# Altium footprint library Tony_Stanks_Own.PcbLib: 12 footprints
Each footprint in its own frame and in the unit in brackets; x right, y up, seen from the top. Pads: shape width x height; smd on the part's side, far side on the other; paste and mask are expansions set on the pad; w line width, h text height; cw(c..) or ccw(c..) is an arc to the next point about the centre after c.
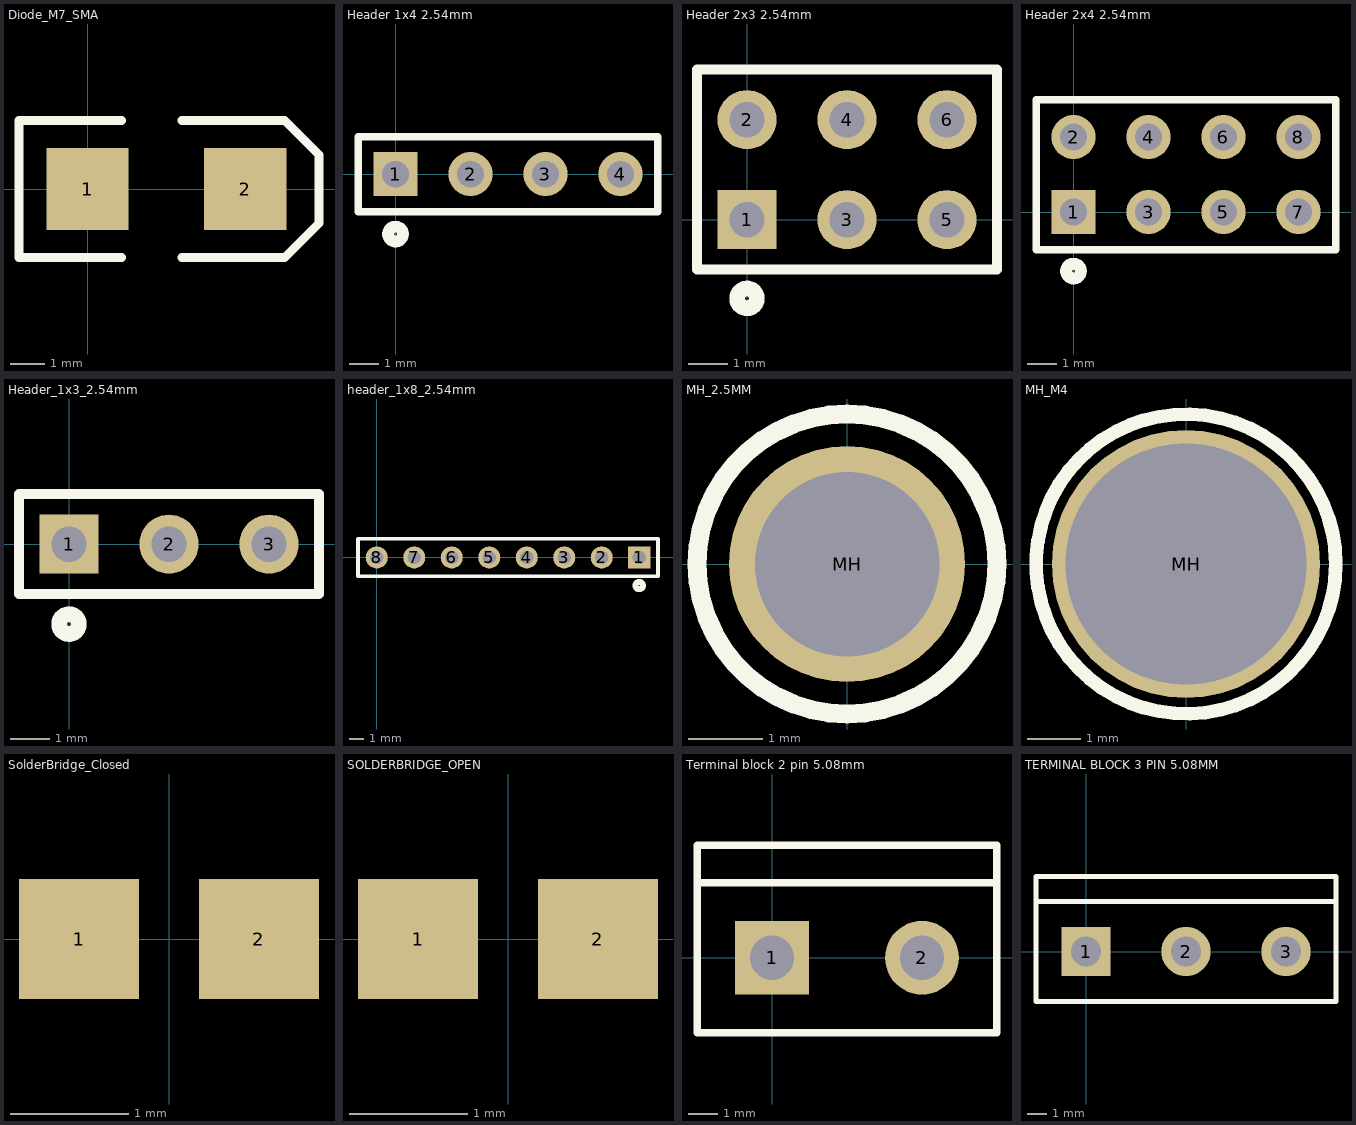
[diagram p0: the footprints below, top view; thin cyan lines are the x and y axes]

## Diode_M7_SMA [mm]
pads (2):
  rect 2.4x2.4 smd mask+0: 1(0,0) 2(4.6,0)
Top Overlay:
  lines w0.254: 1,-2 -2,-2 -2,2 1,2 ; 2.75,-2 5.75,-2 6.75,-1 6.75,1 5.75,2 5.25,2 2.75,2

## Header 1x4 2.54mm [mm]
pads (4):
  rect 1.5x1.5 hole 0.9: 1(0,0)
  round 1.5 hole 0.9: 2(2.54,0) 3(5.08,0) 4(7.62,0)
Top Overlay:
  circle w0.4: c0,-2.032 r0.25
  lines w0.254: -1.27,-1.27 8.89,-1.27 8.89,1.27 -1.27,1.27 -1.27,-1.27

## Header 2x3 2.54mm [mm]
pads (6):
  rect 1.5x1.5 hole 0.9: 1(0,0)
  round 1.5 hole 0.9: 2(0,2.54) 3(2.54,0) 4(2.54,2.54) 5(5.08,0) 6(5.08,2.54)
Top Overlay:
  circle w0.4: c0,-2 r0.25
  lines w0.254: -1.27,-1.27 6.35,-1.27 6.35,3.81 -1.27,3.81 -1.27,-1.27

## Header 2x4 2.54mm [mm]
pads (8):
  rect 1.5x1.5 hole 0.9: 1(0,0)
  round 1.5 hole 0.9: 2(0,2.54) 3(2.54,0) 4(2.54,2.54) 5(5.08,0) 6(5.08,2.54) 7(7.62,0) 8(7.62,2.54)
Top Overlay:
  circle w0.4: c0,-2 r0.25
  lines w0.254: -1.27,-1.27 8.89,-1.27 8.89,3.81 -1.27,3.81 -1.27,-1.27

## Header_1x3_2.54mm [mm]
pads (3):
  rect 1.5x1.5 hole 0.9: 1(0,0)
  round 1.5 hole 0.9: 2(2.54,0) 3(5.08,0)
Top Overlay:
  circle w0.4: c0,-2.032 r0.25
  lines w0.254: -1.27,-1.27 6.35,-1.27 6.35,1.27 -1.27,1.27 -1.27,-1.27

## header_1x8_2.54mm [mm] "header_1x8_2.54mm"
pads (8):
  rect 1.5x1.5 hole 0.9: 1(17.78,0)
  round 1.5 hole 0.9: 2(15.24,0) 3(12.7,0) 4(10.16,0) 5(7.62,0) 6(5.08,0) 7(2.54,0) 8(0,0)
Top Overlay:
  circle w0.4: c17.78,-1.905 r0.25
  lines w0.254: -1.27,-1.27 19.05,-1.27 19.05,1.27 -1.27,1.27 -1.27,0 -1.27,-1.27

## MH_2.5MM [mm] "Mounting_Hole_2.5MM"
pads (1):
  round 3.2 hole 2.499: MH(0,0)
Top Overlay:
  circle w0.254: c0,0 r2.032
Bottom Overlay:
  circle w0.254: c0,0 r2.032

## MH_M4 [mm]
pads (1):
  round 5 hole 4.5: MH(0,0)
Top Overlay:
  circle w0.254: c0,0 r2.794
Bottom Overlay:
  circle w0.254: c0,0 r2.797

## SolderBridge_Closed [mil]
pads (2):
  rect 40x40 smd mask+2: 1(-30,0) 2(30,0)

## SOLDERBRIDGE_OPEN [mil] "SOLDERBRIDGE_OPEN"
pads (2):
  rect 40x40 smd mask+2: 1(-30,0) 2(30,0)

## Terminal block 2 pin 5.08mm [mm]
pads (2):
  rect 2.5x2.5 hole 1.5: 1(0,0)
  round 2.5 hole 1.5: 2(5.08,0)
Top Overlay:
  lines w0.254: -2.54,3.81 7.62,3.81 ; -2.54,3.81 -2.54,-2.54 7.62,-2.54 7.62,3.81 ; -2.54,3.81 7.62,3.81 ; -2.54,3.81 -2.54,2.54 7.62,2.54 7.62,3.81

## TERMINAL BLOCK 3 PIN 5.08MM [mm]
pads (3):
  rect 2.5x2.5 hole 1.5: 1(0,0)
  round 2.5 hole 1.5: 2(5.08,0) 3(10.16,0)
Top Overlay:
  lines w0.254: -2.54,3.81 12.7,3.81 ; -2.54,3.81 -2.54,2.54 12.7,2.54 12.7,3.81 ; -2.54,3.81 12.7,3.81 ; -2.54,3.81 -2.54,-2.54 12.7,-2.54 12.7,3.81